# Altium schematic symbol library Pd's Sch Lib.SchLib: 116 symbols (part 2 of 2)
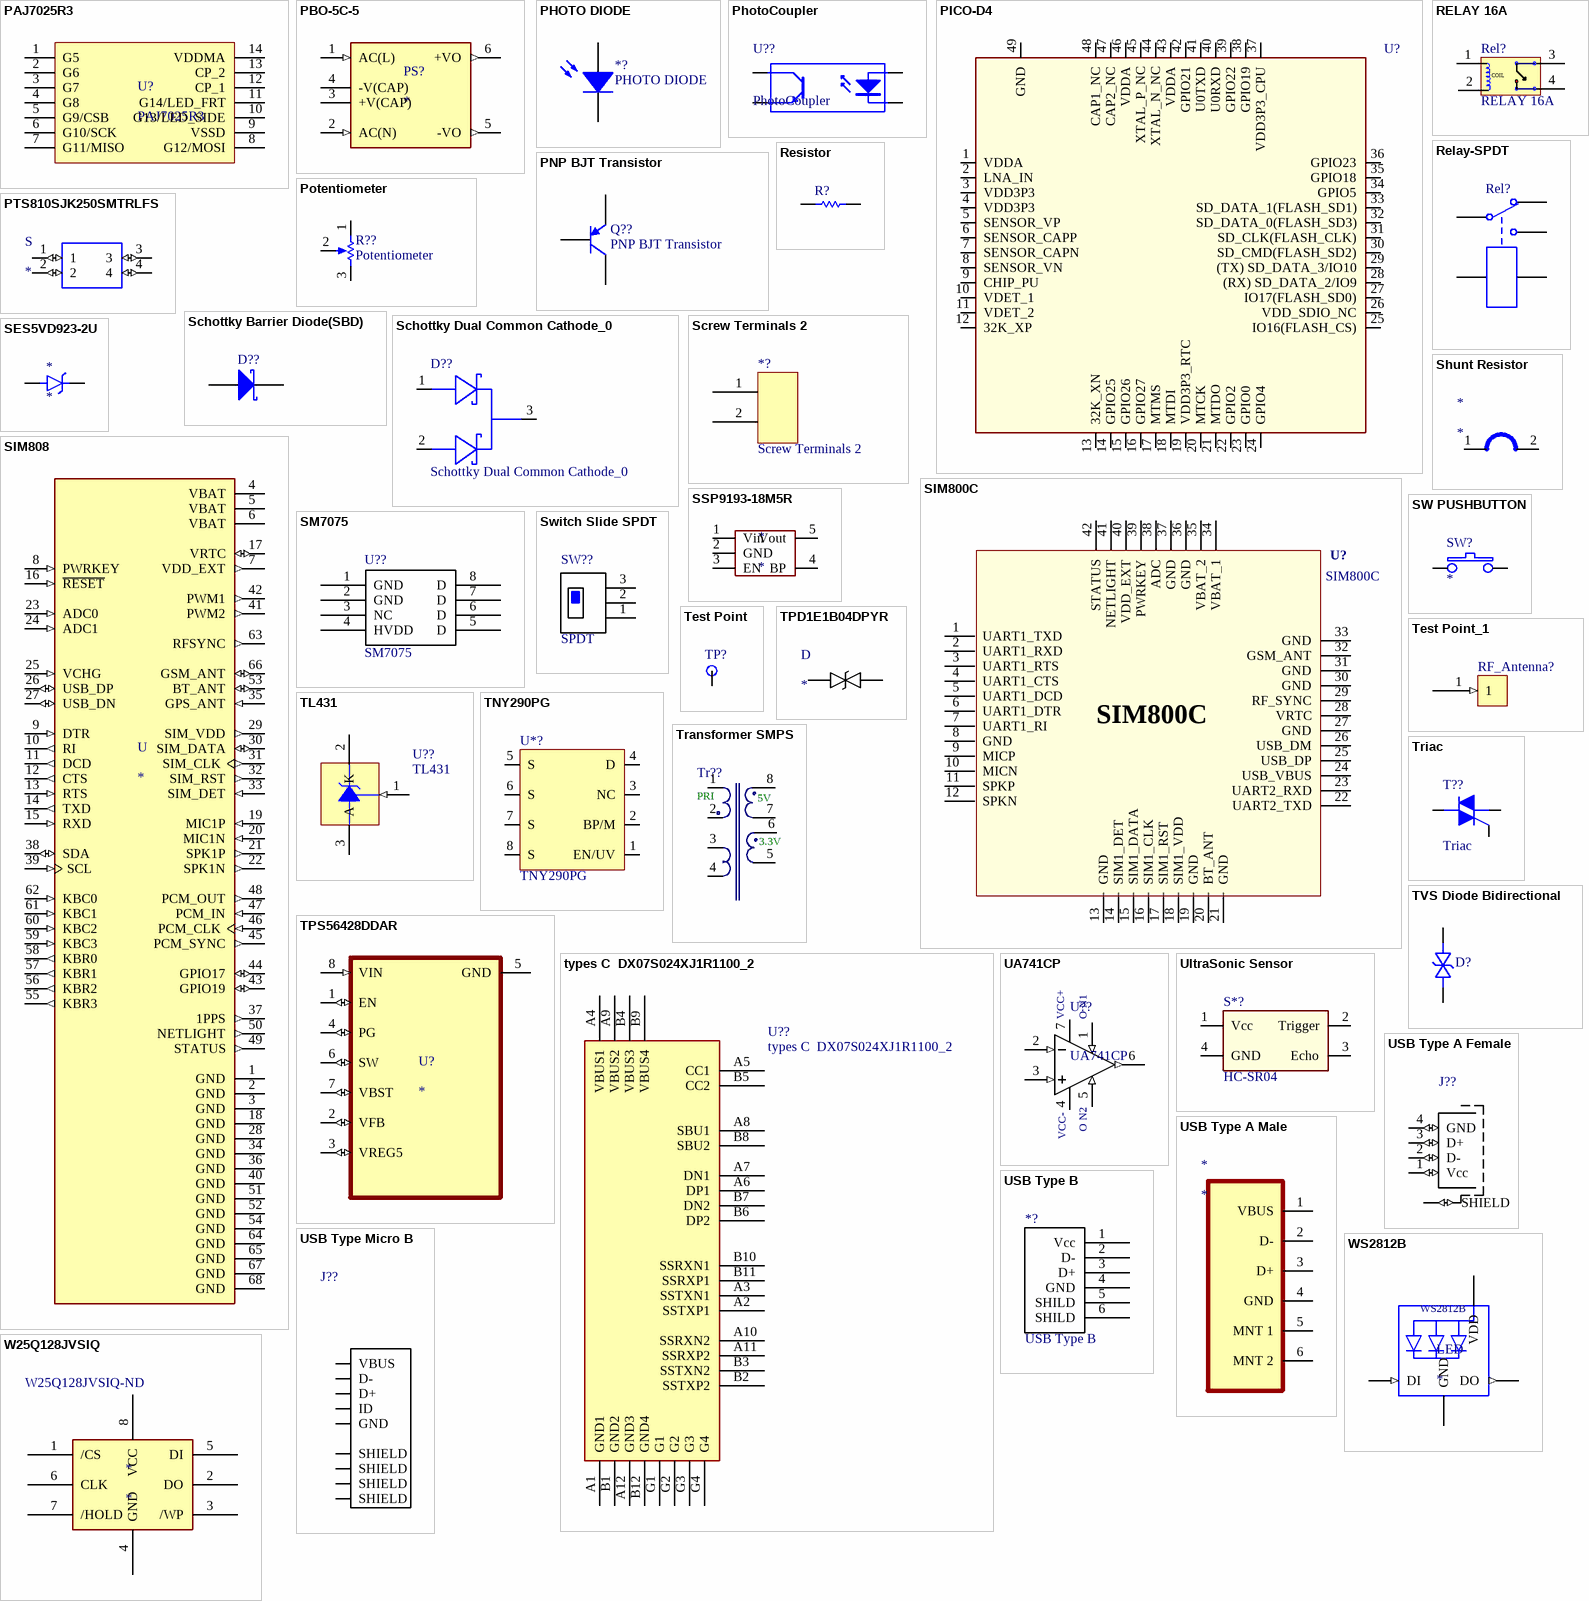
[diagram p4: symbols PAJ7025R3 to WS2812B]

## USB Type A Female
designator J??, comment sunrom 4271  (value not drawn)
USB - A USB 2.0 Receptacle Connector 4 Position Through Hole, Right Angle; MP: 61400416021; MF: Wurth Electronics; Availability: Unavailable; SnapEDA_Link: https://www.snapeda.com/parts/61400416021/Wurth%20Electronics%20Inc./view-part/1118294/?ref=snap; Price: None; Package: None; Value: *
footprint USB Type A Female
pins: 1 Vcc (io), 2 D- (io), 3 D+ (io), 4 GND (io), SHELL SHIELD (io), SHELL1 SHIELD (io)

## USB Type A Male
designator *
Manufacturer Part Number: USB Type A male; Case/Package: TH
pins: 1 VBUS, 2 D-, 3 D+, 4 GND, 5 MNT 1, 6 MNT 2

## USB Type B
designator *?
pins: 1 Vcc, 2 D-, 3 D+, 4 GND, 5 SHILD, 6 SHILD

## USB Type Micro B
designator J??, comment Sunrom 4653  (value not drawn)
USB - Micro B Female USB 2 5 SMD USB Connectors RoHS; Manufacturer Part Number: U254-051T-4BH23-S2B; MF: Global Connector Technology; SnapEDA_Link: https://www.snapeda.com/parts/USB3075-30-A/Global%20Connector%20Technology/view-part/?ref=snap; Package: None; Price: None; Value: *
footprint USB_SUNROM_4653 - duplicate
pins: 1 VBUS (power), 2 D- (io), 3 D+ (io), 4 ID (io), 5 GND (power), 6 SHIELD, 7 SHIELD, 8 SHIELD, 9 SHIELD

## W25Q128JVSIQ
designator *  Supplier Part Number 1: W25Q128JVSIQ-ND
Non-Volatile FLASH 128Mb (16M x 8) SPI - Dual/Quad I/O SOIC-8_208mil FLASH RoHS; Manufacturer 1: Winbond; Manufacturer Part Number: W25Q128JVSIQ; Description 1: IC FLASH 128M SPI 133MHZ 8SOIC; Memory Type: FLASH,NOR; Frequency: 104MHz; Interface: SPI,Serial; RoHS 1: Yes; Category 1: Flash; Case/Package: SOIC-8_208mil; Min Operating Temperature: -40°C; Max Operating Temperature: 85°C; Packaging: Tray; ComponentLink1URL: http://www.winbond.com/resource-files/w25q128jv%20revf%2003272018%20plus.pdf?src-supplier=Digi-Key; ComponentLink1Description: http://www.winbond.com/resource-files/w25q128jv%20revf%2003272018%20plus.pdf?src-supplier=Digi-Key
footprint SOIC-8 208-Mil (Flash memory 4mb Sop8)
pins: 1 /CS, 2 DO, 3 /WP, 4 GND, 5 DI, 6 CLK, 7 /HOLD, 8 VCC

## WS2812B
designator LED
RGB 620~630nmRed,515~530nmGreen,465~475nmBlue SMD,5x5mm Light Emitting Diodes (LED) RoHS; Manufacturer Part Number: WS2812B; Category 1: LEDs; RoHS 1: Yes; Case/Package: SMD,5x5mm; Mount: Surface Mount; Color: Blue,Green,Red; ComponentLink1URL: http://www.mouser.com/ds/2/737/SK6812_LED_datasheet_-953546.pdf?src-supplier=Mouser; ComponentLink1Description: http://www.mouser.com/ds/2/737/SK6812_LED_datasheet_-953546.pdf?src-supplier=Mouser; ComponentLink2URL: https://cdn-shop.adafruit.com/product-files/1138/SK6812+LED+datasheet+.pdf?src-supplier=Digi-Key; ComponentLink2Description: https://cdn-shop.adafruit.com/product-files/1138/SK6812+LED+datasheet+.pdf?src-supplier=Digi-Key
footprint WS2812B
pins: 1-VDD VDD (power), 2-DOUT DO (out), 3-GND GND (power), 4-DIN DI (in)

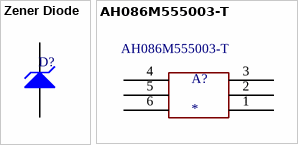
[diagram p3: symbols Zener Diode to ‎AH086M555003-T‎]

## Zener Diode
designator D?
Zener Diode
footprint DIODE-0.7 (Diode, Thru-Hole; 2 Leads; 0.7 in Pin Spacing)
simulation model ZENER (Diode)
signal-integrity model D Zener
pins: A, K

## ‎AH086M555003-T‎
designator A?  Manufacturer Part Number: AH086M555003-T
SMD Antennas RoHS; Manufacturer 1: Taiyo Yuden; Description 1: ANTENNA, UWB/WiMAX, 5550MHZ, FULL REEL; Antenna Case Size:-; Center Frequency:5.55GHz; Product Range:-; Antenna Type:Multilayer; VSWR:2 ;RoHS Compliant: Yes; Category 1: RF Antennas; Number of Bands: 1; Max Frequency: 8GHz; Frequency: 5.55GHz; Impedance: 50R; Supplier 1: Digi-Key; RoHS 1: Yes; Stock 1: 4840; Pricing 1: 1=6.43000, 10=5.80500, 25=5.53520, 100=4.80600, 250=4.59000, 500=4.18500 (USD); Mount: Surface Mount; Min Operating Temperature: -20°C; Max Operating Temperature: 80°C; Termination: Solder; Packaging: Tape and Reel; Package Quantity: 1; Length: 8mm; Height: 0.039inch; Width: 6mm; Radiation Hardening: No; REACH SVHC: Unknown; ComponentLink1URL: https://datasheet.ciiva.com/2791/ah-086m555003-ss-2791894.pdf?src-supplier=Digi-Key; ComponentLink1Description: https://datasheet.ciiva.com/2791/ah-086m555003-ss-2791894.pdf?src-supplier=Digi-Key; ComponentLink2URL: https://datasheet.ciiva.com/2791/chipantenna01-e-2791895.pdf?src-supplier=Digi-Key; ComponentLink2Description: https://datasheet.ciiva.com/2791/chipantenna01-e-2791895.pdf?src-supplier=Digi-Key; ComponentLink3URL: https://datasheet.ciiva.com/3306/chipantenna01-e-3306567.pdf?src-supplier=Avnet; ComponentLink3Description: https://datasheet.ciiva.com/3306/chipantenna01-e-3306567.pdf?src-supplier=Avnet; ComponentLink4URL: https://datasheet.ciiva.com/2791/chipantenna01-e-2791896.pdf?src-supplier=Digi-Key; ComponentLink4Description: https://datasheet.ciiva.com/2791/chipantenna01-e-2791896.pdf?src-supplier=Digi-Key; ComponentLink5URL: https://datasheet.ciiva.com/8153/chipantenna01-e-8153000.pdf?src-supplier=Avnet; ComponentLink5Description: https://datasheet.ciiva.com/8153/chipantenna01-e-8153000.pdf?src-supplier=Avnet; ComponentLink6URL: https://datasheet.ciiva.com/1125/chipantenna01-e-1125194.pdf?src-supplier=Element14; ComponentLink6Description: https://datasheet.ciiva.com/1125/chipantenna01-e-1125194.pdf?src-supplier=Element14; ComponentLink7URL: https://datasheet.ciiva.com/28414/1918813-28414122.pdf?src-supplier=Element14; ComponentLink7Description: https://datasheet.ciiva.com/28414/1918813-28414122.pdf?src-supplier=Element14; Supplier Part Number 1: 587-2204-1-ND
footprint AH086M555003
pins: 1, 2, 3, 4, 5, 6